# Altium footprint library R0402.PcbLib: 1 footprints
Each footprint in its own frame and in the unit in brackets; x right, y up, seen from the top. Pads: shape width x height; smd on the part's side, far side on the other; paste and mask are expansions set on the pad; w line width, h text height; cw(c..) or ccw(c..) is an arc to the next point about the centre after c.
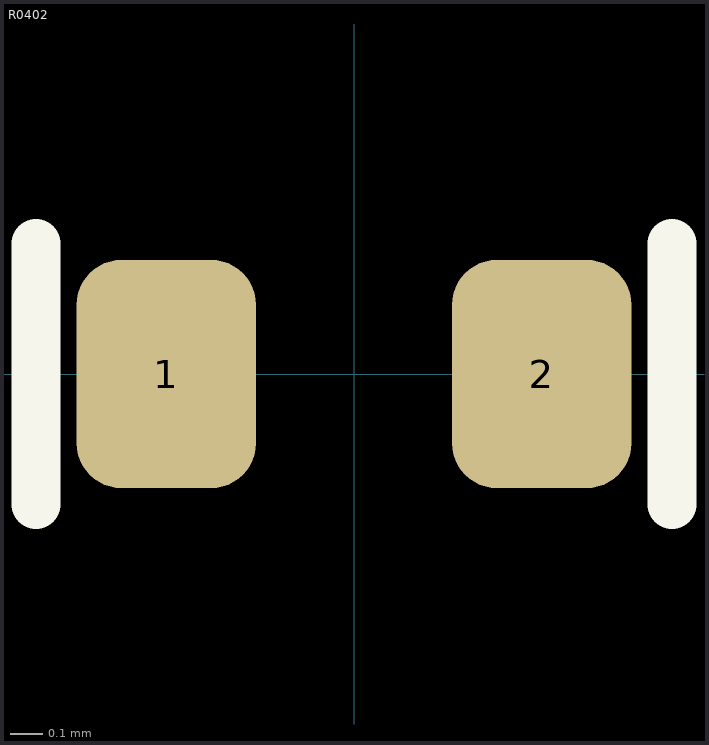
[diagram p0: the footprint, top view; thin cyan lines are the x and y axes]

## R0402 [mm]
height 1.4
pads (2):
  rrect50% 0.55x0.7 smd: 1(-0.575,0) 2(0.575,0)
Top Overlay:
  lines w0.15: -0.975,-0.4 -0.975,0.4 ; 0.975,-0.4 0.975,0.4
3D body: height 0.41, standoff 0, extent -0.6,-0.275 0.55,0.275